# EAGLE library part MK22_120_TQFP64 (library EurorackModularParts)
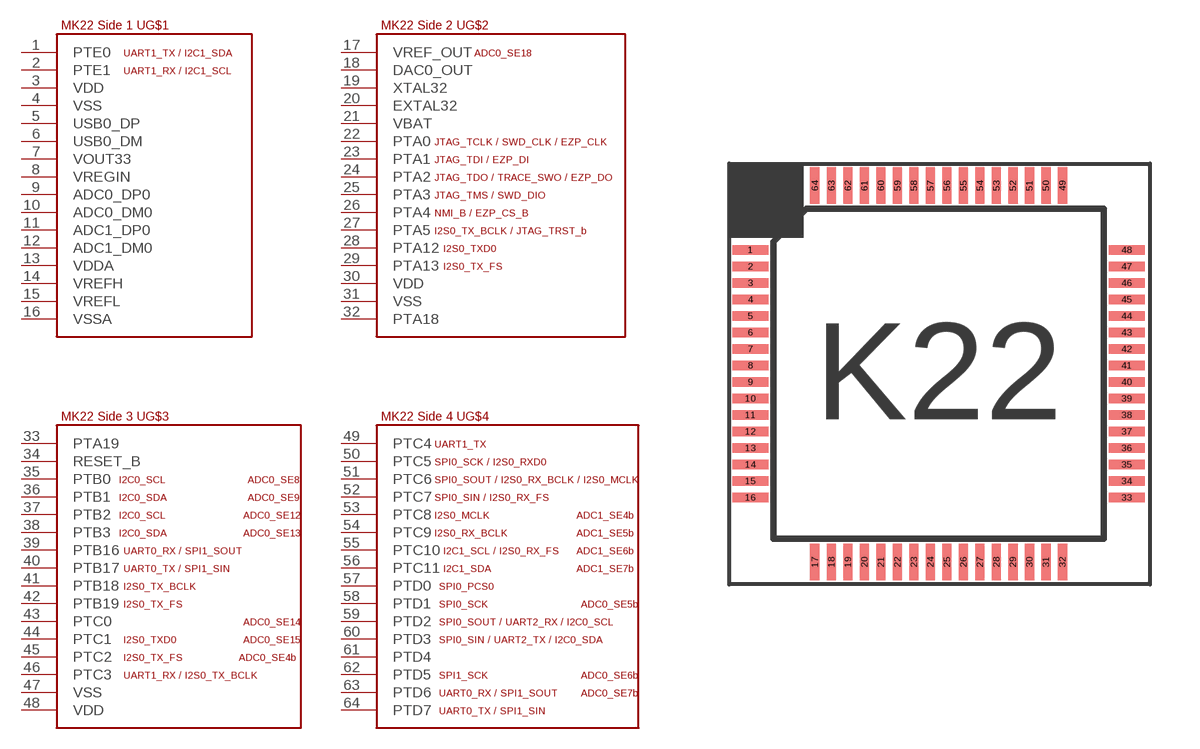
[diagram p8: symbol with the pads of MK22_TQFP64; footprint MK22_TQFP64]

Designator prefix -; gates G$1=MK22_SIDE1 G$2=MK22_SIDE2 G$3=MK22_SIDE3 G$4=MK22_SIDE4

## MK22_120_TQFP64  [MK22_TQFP64]
1  G$1:PTE0
2  G$1:PTE1
3  G$1:VDD
4  G$1:VSS
5  G$1:USB0_DP
6  G$1:USB0_DM
7  G$1:VOUT33
8  G$1:VREGIN
9  G$1:ADC0_DP0
10  G$1:ADC0_DM0
11  G$1:ADC1_DP0
12  G$1:ADC1_DM0
13  G$1:VDDA
14  G$1:VREFH
15  G$1:VREFL
16  G$1:VSSA
17  G$2:VREF_OUT
18  G$2:DAC0_OUT
19  G$2:XTAL32
20  G$2:EXTAL32
21  G$2:VBAT
22  G$2:PTA0
23  G$2:PTA1
24  G$2:PTA2
25  G$2:PTA3
26  G$2:PTA4
27  G$2:PTA5
28  G$2:PTA12
29  G$2:PTA13
30  G$2:VDD
31  G$2:VSS
32  G$2:PTA18
33  G$3:PTA19
34  G$3:RESET_B
35  G$3:PTB0
36  G$3:PTB1
37  G$3:PTB2
38  G$3:PTB3
39  G$3:PTB16
40  G$3:PTB17
41  G$3:PTB18
42  G$3:PTB19
43  G$3:PTC0
44  G$3:PTC1
45  G$3:PTC2
46  G$3:PTC3
47  G$3:VSS
48  G$3:VDD
49  G$4:PTC4
50  G$4:PTC5
51  G$4:PTC6
52  G$4:PTC7
53  G$4:PTC8
54  G$4:PTC9
55  G$4:PTC10
56  G$4:PTC11
57  G$4:PTD0
58  G$4:PTD1
59  G$4:PTD2
60  G$4:PTD3
61  G$4:PTD4
62  G$4:PTD5
63  G$4:PTD6
64  G$4:PTD7

## Footprint MK22_TQFP64 (pad centres in mm)
smd 1.1 x 0.285: 1 -5.605,3.385; 2 -5.605,2.885; 3 -5.605,2.385; 4 -5.605,1.885; 5 -5.605,1.385; 6 -5.605,0.885; 7 -5.605,0.385; 8 -5.605,-0.115; 9 -5.605,-0.615; 10 -5.605,-1.115; 11 -5.605,-1.615; 12 -5.605,-2.115; 13 -5.605,-2.615; 14 -5.605,-3.115; 15 -5.605,-3.615; 16 -5.605,-4.115; 33 5.795,-4.115; 34 5.795,-3.615; 35 5.795,-3.115; 36 5.795,-2.615; 37 5.795,-2.115; 38 5.795,-1.615; 39 5.795,-1.115; 40 5.795,-0.615; 41 5.795,-0.115; 42 5.795,0.385; 43 5.795,0.885; 44 5.795,1.385; 45 5.795,1.885; 46 5.795,2.385; 47 5.795,2.885; 48 5.795,3.385
smd 0.285 x 1.1: 17 -3.655,-6.065; 18 -3.155,-6.065; 19 -2.655,-6.065; 20 -2.155,-6.065; 21 -1.655,-6.065; 22 -1.155,-6.065; 23 -0.655,-6.065; 24 -0.155,-6.065; 25 0.345,-6.065; 26 0.845,-6.065; 27 1.345,-6.065; 28 1.845,-6.065; 29 2.345,-6.065; 30 2.845,-6.065; 31 3.345,-6.065; 32 3.845,-6.065; 49 3.845,5.335; 50 3.345,5.335; 51 2.845,5.335; 52 2.345,5.335; 53 1.845,5.335; 54 1.345,5.335; 55 0.845,5.335; 56 0.345,5.335; 57 -0.155,5.335; 58 -0.655,5.335; 59 -1.155,5.335; 60 -1.655,5.335; 61 -2.155,5.335; 62 -2.655,5.335; 63 -3.155,5.335; 64 -3.655,5.335